# Altium schematic symbol library Custom1.SchLib: 476 symbols (part 6 of 16)
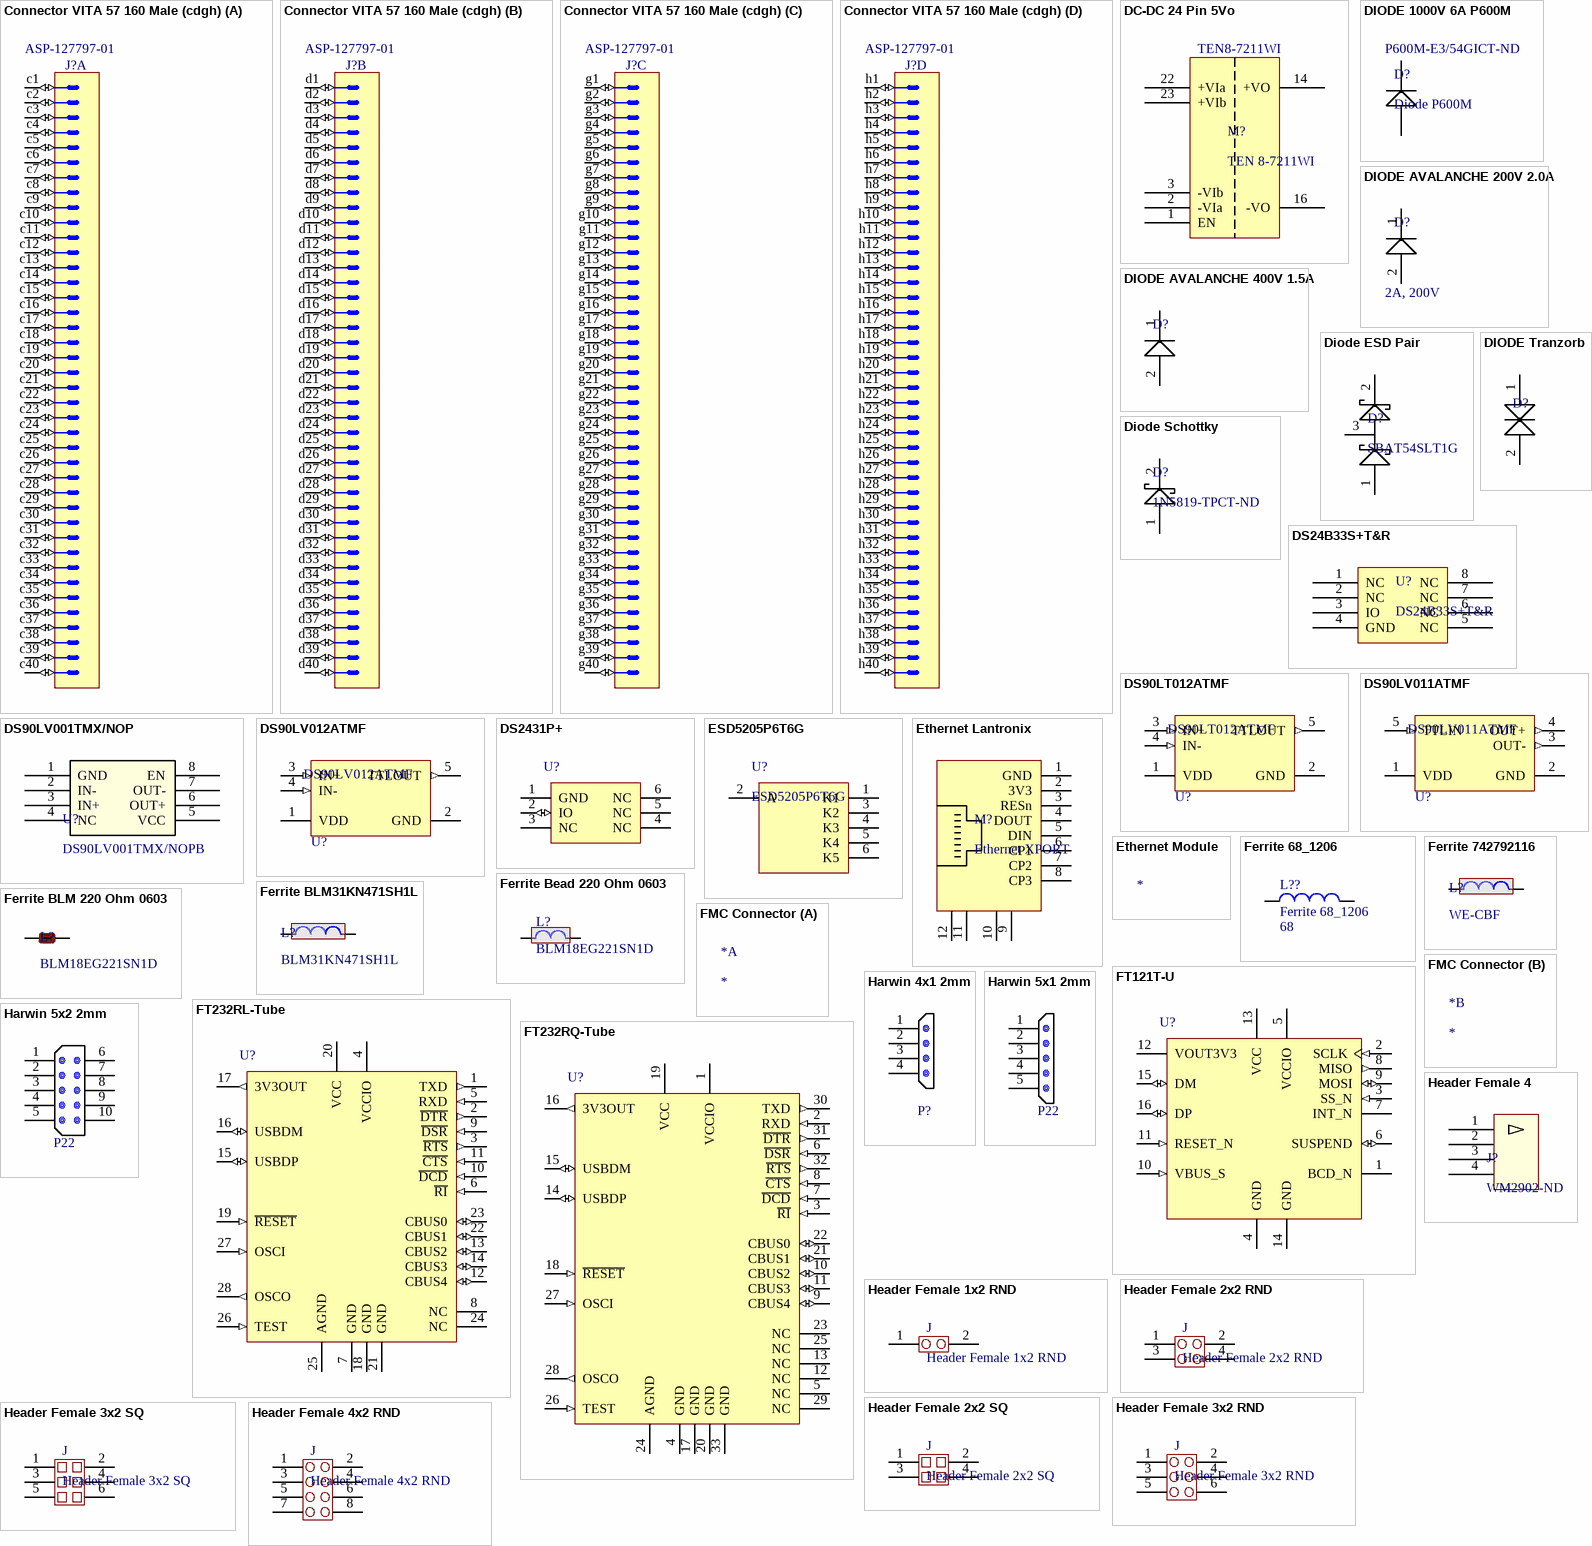
[diagram p30: symbols Connector VITA 57 160 Male (cdgh) to Header Female 4x2 RND]

## DS90LV011ATMF
designator U?
Single High Speed Differential Driver, 5-pin SOT-23; Manufacturer: Texas Instruments; Manufacturer Part Number: DS90LV011ATMF/NOPB; Nominal Supply Current: 7mA; Min Supply Voltage: 3V; Max Supply Voltage: 3.6V; Data Rate: 400Mbps; Max Power Dissipation: 902mW; Number of Receivers: 1; Propagation Delay: 1.5ns; Operating Supply Voltage: 3.3V; Max Supply Current: 10mA; Power Consumption: 17W; Max Output Current: -24mA; Interface: LVDS; Max Output Voltage: 450mV; ComponentLink1URL: http://www.ti.com/lit/ds/symlink/ds90lv011a.pdf; ComponentLink1Description: http://www.ti.com/lit/ds/symlink/ds90lv011a.pdf; Supplier 1: Digi-Key; Stock 1: 57010; Pricing 1: 1 = 1.26000, 10 = 1.12400, 100 = 0.87650, 500 = 0.72410 (USD); RoHS: Yes; Mount: Surface Mount; Case/Package: SOT-23; Number of Pins: 5; Weight: 0.00709oz; Min Operating Temperature: -40°C; Max Operating Temperature: 85°C; Packaging: Tape and Reel; Package Quantity: 1000; Number of Elements: 1; Number of Drivers: 1; Turn-On Delay Time: 1.5ns; Power Dissipation: 902mW; Number of Channels: 1; Operating Supply Current: 10mA; Termination: SMD/SMT; Length: 2.92mm; Height: 1.02mm; Width: 1.6mm; Radiation Hardening: No; REACH SVHC: No SVHC; Lead Free: Lead Free; ComponentLink2URL: https://datasheet.ciiva.com/46381/1581201-46381879.pdf?src-supplier=Element14; ComponentLink2Description: https://datasheet.ciiva.com/46381/1581201-46381879.pdf?src-supplier=Element14; ComponentLink3URL: https://datasheet.ciiva.com/46381/1882279-46381880.pdf?src-supplier=Element14; ComponentLink3Description: https://datasheet.ciiva.com/46381/1882279-46381880.pdf?src-supplier=Element14; Supplier Part Number 1: DS90LV011ATMF/NOPBCT-ND
footprint MF05A_N (SOT23, 5-Leads, Body 2.9x1.6mm, Pitch 0.95mm, Lead Span 2.8mm, IPC Medium Density)
footprint MF05A_L (SOT23, 5-Leads, Body 2.9x1.6mm, Pitch 0.95mm, Lead Span 2.8mm, IPC High Density)
footprint MF05A_M (SOT23, 5-Leads, Body 2.9x1.6mm, Pitch 0.95mm, Lead Span 2.8mm, IPC Low Density)
pins: 1 VDD (power), 2 GND (power), 3 OUT- (out), 4 OUT+ (out), 5 TTLIN (in)

## DS90LV012ATMF
designator U?
3V LVDS Single CMOS Differential Line Receiver, 5-pin SOT-23; Manufacturer: TI National Semiconductor; Manufacturer Part Number: DS90LV012ATMF/NOPB; Number of Elements: 1; Propagation Delay: 3.5ns; Operating Supply Voltage: 3.3V; Max Supply Voltage: 3.6V; Min Supply Voltage: 2.7V; Max Power Dissipation: 2.26W; Data Rate: 400Mbps; Max Supply Current: 9mA; Power Consumption: 18W; ComponentLink1URL: http://www.ti.com/lit/ds/symlink/ds90lv012a.pdf; ComponentLink1Description: http://www.ti.com/lit/ds/symlink/ds90lv012a.pdf; ComponentLink2URL: https://datasheet.ciiva.com/15133/getdatasheetpartid-627853-15133191.pdf?src-supplier=Verical; ComponentLink2Description: https://datasheet.ciiva.com/15133/getdatasheetpartid-627853-15133191.pdf?src-supplier=Verical; ComponentLink3URL: https://datasheet.ciiva.com/41460/001187784-da-01-en-ic-line-ds90lv012atmf-nopb-sot-23-5-tid-41460741.pdf?src-supplier=Conrad; ComponentLink3Description: https://datasheet.ciiva.com/41460/001187784-da-01-en-ic-line-ds90lv012atmf-nopb-sot-23-5-tid-41460741.pdf?src-supplier=Conrad; ComponentLink4URL: https://datasheet.ciiva.com/1709/ds90lt012a-1709907.pdf?src-supplier=Digi-Key; ComponentLink4Description: https://datasheet.ciiva.com/1709/ds90lt012a-1709907.pdf?src-supplier=Digi-Key; ComponentLink5URL: https://datasheet.ciiva.com/3151/ds90lv012a-3151479.pdf?src-supplier=Avnet; ComponentLink5Description: https://datasheet.ciiva.com/3151/ds90lv012a-3151479.pdf?src-supplier=Avnet; ComponentLink6URL: https://datasheet.ciiva.com/1554/1849915-1554728.pdf?src-supplier=Farnell; ComponentLink6Description: https://datasheet.ciiva.com/1554/1849915-1554728.pdf?src-supplier=Farnell; ComponentLink7URL: https://datasheet.ciiva.com/3151/ds90lv012a-3151480.pdf?src-supplier=Avnet; ComponentLink7Description: https://datasheet.ciiva.com/3151/ds90lv012a-3151480.pdf?src-supplier=Avnet; ComponentLink8URL: https://datasheet.ciiva.com/1709/ds90lt012a-1709945.pdf?src-supplier=Digi-Key; ComponentLink8Description: https://datasheet.ciiva.com/1709/ds90lt012a-1709945.pdf?src-supplier=Digi-Key; ComponentLink9URL: https://datasheet.ciiva.com/1709/ds90lt012a-1709946.pdf?src-supplier=Digi-Key; ComponentLink9Description: https://datasheet.ciiva.com/1709/ds90lt012a-1709946.pdf?src-supplier=Digi-Key; Supplier 1: Digi-Key; Stock 1: 46821; Pricing 1: 1=1.05000, 10=0.93600, 100=0.72970, 500=0.60276 (USD); RoHS: Yes; Mount: Surface Mount; Case/Package: SOT-23; Number of Pins: 5; Min Operating Temperature: -40°C; Max Operating Temperature: 85°C; Packaging: Tape and Reel; Number of Receivers: 1; Number of Drivers: 1; Turn-On Delay Time: 3.5ns; Power Dissipation: 2.26W; Number of Channels: 1; Package Quantity: 1000; Length: 2.92mm; Height: 1.02mm; Width: 1.6mm; Radiation Hardening: No; REACH SVHC: No SVHC; Lead Free: Lead Free; Supplier Part Number 1: DS90LV012ATMF/NOPBCT-ND
footprint MF05A_N (SOT23, 5-Leads, Body 2.9x1.6mm, Pitch 0.95mm, Lead Span 2.8mm, IPC Medium Density)
footprint MF05A_L (SOT23, 5-Leads, Body 2.9x1.6mm, Pitch 0.95mm, Lead Span 2.8mm, IPC High Density)
footprint MF05A_M (SOT23, 5-Leads, Body 2.9x1.6mm, Pitch 0.95mm, Lead Span 2.8mm, IPC Low Density)
pins: 1 VDD (power), 2 GND (power), 3 IN+ (in), 4 IN- (in), 5 TTLOUT (out)

## DS2431P+
designator U?
1Kb 1-Wire EEPROM, 6-pin TSOC, -40° to + 85° C, Pb-Free; DatasheetVersion: 1/03/2011; PackageVersion: revE, 2011; PackageReference: D6+1; PackageDescription: Thin Small-Outline, 6 C-Leads, 3.9 x 3.8 mm Body, 1.27 mm Pitch, TSOC, Pb-Free; ComponentLink1Description: Manufacturer URL; ComponentLink1URL: www.maxim-ic.com; ComponentLink2Description: Datasheet; ComponentLink2URL: http://datasheets.maxim-ic.com/en/ds/DS2431.pdf
footprint D6+1 (Small Outline; 6 C-Bend Leads; Body Width 3.8 mm; Pitch 1.27 mm, Maxim Recommended)
pins: 1 GND (power), 2 IO (io), 3 NC, 4 NC, 5 NC, 6 NC

## ESD5205P6T6G
designator U?
Transient Voltage Suppressor, Low Capacitance ESD Protection Diode for High Speed Data Line, 6-Pin SOT-963, Pb-Free, Tape and Reel; Manufacturer: On Semiconductor; VRWM Max (V): 5; Direction: Bidirectional; C Max (pF): 9; PPK Max (W): 18; V(BR) Min (V): 5.5; IR Max (uA): 1; PartNumber: ESD5205P6T6G; Number of Lines: 5; ComponentLink1Description: Manufacturer URL; ComponentLink2Description: Datasheet; DatasheetVersion: Rev. 0; ComponentLink3URL: http://www.onsemi.cn/pub_link/Collateral/527AD.PDF; ComponentLink1URL: http://www.onsemi.com/; Packing: Tape and Reel; ComponentLink2URL: http://www.onsemi.cn/pub_link/Collateral/ESD5205-D.PDF; PackageReference: SOT-963-6-527AD-01; ComponentLink3Description: Package Specification; PackageVersion: Rev. E, 02/2010; RoHS: Pb-Free; Mounting Technology: Surface Mount; PackageDescription: 6-Pin Small Outline Transistor, Body 1 x 0.8 mm, Pitch 0.35 mm
footprint ONSC-SOT-963-6-527AD-01_V
pins: 1 K1, 2 A, 3 K2, 4 K3, 5 K4, 6 K5

## Ethernet Lantronix
designator M?, comment Ethernet XPORT
Lantronix Ethernet XPORT; Manufacturer Part Number: XP1002000-05R; Data Rate: 921.6 kb/s, 10 Mb/s, 100 Mb/s; Processor Type: DSTni-EX; Interface Type: Ethernet, Serial; Number of Ports: 1 Ethernet; Operating Supply Current: 119 mA; Operating Supply Voltage: 3.3 V; Supplier 1: Mouser; Manufacturer: Lantronix; RoHS: RoHS Compliant; Category: Ethernet Modules; Stock 1: 82; Pricing 1: 1=54.30, 25=53.46, 50=52.65, 100=51.10, 200=49.64 (USD); Dimensions: 33.9 mm x 16.25 mm x 13.5 mm; Packaging: Bulk; Product: Serial to Ethernet Device Servers; Series: XPORT; Brand: Lantronix; Maximum Operating Temperature: + 85 C; Minimum Operating Temperature: - 40 C; Standard Pack Qty: 200; RoHS - Mouser: Y; Minimum Order Quantity: 1; Reeling: False; ComponentLink1URL: http://www.mouser.com/ds/2/224/XPort_DS-220314.pdf; ComponentLink1Description: http://www.mouser.com/ds/2/224/XPort_DS-220314.pdf; Supplier Part Number 1: 515-XP1002000-05R
footprint Ethernet XPORT
pins: 1 GND, 2 3V3, 3 RESn, 4 DOUT, 5 DIN, 6 CP1, 7 CP2, 8 CP3, 9, 10, 11, 12

## Ethernet Module
designator *  (value not drawn)

## Ferrite 68_1206
designator L??  value 68
Inductor 68ohm Ferrite_1206; Ratings: 3A; PackageReference: 1206; PackageDescription: Chip Inductor; Supplier: Digi-Key; Supplier P/N: P10437CT-ND
footprint 0402 (Chip Capacitor; Body 1.0 x 0.5 mm (LxW typ))
footprint INDC1608L (Chip Inductor, Body 1.6x0.8mm, IPC High Density)
footprint 2029 (Chip Inductor, Body 2.0x1.2mm, IPC High Density)
footprint 0603 (Chip Inductor, Body 0.6x0.3mm, IPC High Density)
footprint INDC3216 (Chip Inductor, Body 3.2x1.6mm, IPC High Density)
footprint INDC4532 (Chip Inductor, Body 4.5x3.2mm, IPC High Density)
simulation model INDUCTOR (Inductor)
signal-integrity model Inductor
footprint 0805 (SMT; Body 2.0 x 1.2 mm (LxW typ))
footprint 1206 (Chip Capacitor; Body 3.2 x 1.6 mm (LxW typ))
pins: 1, 2

## Ferrite 742792116
designator L?, comment WE-CBF
SMD EMI Suppression Ferrite Bead WE-CBF, Z = 500 Ohm; PartNumber: 742792116; Manufacturer: Wurth Electronics Inc; Impedance: 500 Ohm; Impedance @ Frequency: 500 Ohm @ 100MHz; Current Rating: 2.5A; DC Resistance (DCR): 60 mOhm; Filter Type: Differential Mode - Single; DatasheetVersion: Dec-2005; PackageReference: SMD-1206; PackageDescription: Chip Inductor, 2-Leads, Body 3.2 x 1.6 mm; ComponentLink1Description: Manufacturer URL; ComponentLink1URL: http://www.we-online.com; ComponentLink2Description: Datasheet; ComponentLink2URL: http://www.we-online.de/katalog/media/pdf/742792116.pdf; Supplier 1: Digi-Key; Manufacturer Part Number: 742792116; RoHS: RoHS Compliant; Category: Filters; Stock 1: 7706; Pricing 1: 1=0.28, 10=0.266, 50=0.2444, 100=0.2338, 500=0.22312, 1000=0.2125 (USD); Packaging: Cut Tape (CT); Package / Case: 1206 (3216 Metric); Mounting Type: Surface Mount; Height (Max): 0.051" (1.30mm); Size / Dimension: 0.126" L x 0.063" W (3.20mm x 1.60mm); ComponentLink3URL: http://katalog.we-online.de/pbs/datasheet/742792116.pdf; ComponentLink3Description: http://katalog.we-online.de/pbs/datasheet/742792116.pdf; Supplier Part Number 1: 732-4652-1-ND
footprint SMD-1206 (Chip Inductor, 2-Leads, Body 3.2x1.6x1.3 mm)
footprint IND_1206 (Chip Inductor, Body 3.2x1.6mm, IPC Medium Density)
pins: 1, 2

## Ferrite Bead 220 Ohm 0603
designator L?, comment BLM18EG221SN1D
Ferrite BLM18EG221SN1D Bead 220 Ohm 0603; Manufacturer: Murata Electronics North America; Impedance @ Frequency: 220 Ohm @ 100MHz; Current Rating: 2A; DC Resistance (DCR): 50 mOhm Max; Filter Type: Differential Mode - Single; Supplier 1: Digi-Key; Manufacturer Part Number: BLM18EG221SN1D; RoHS: RoHS Compliant; Category: Filters; Stock 1: 398616; Pricing 1: 1=0.23, 10=0.175, 50=0.1252, 100=0.1126, 250=0.09508, 500=0.08508, 1000=0.07257 (USD); Packaging: Cut Tape (CT); Package / Case: 0603 (1608 Metric); Mounting Type: Surface Mount; Height (Max): 0.037" (0.95mm); Size / Dimension: 0.063" L x 0.031" W (1.60mm x 0.80mm); ComponentLink1URL: http://search.murata.co.jp/Ceramy/image/img/PDF/ENG/L0110S0101BLM18E.pdf; ComponentLink1Description: http://search.murata.co.jp/Ceramy/image/img/PDF/ENG/L0110S0101BLM18E.pdf; Supplier Part Number 1: 490-3992-1-ND
footprint SMD-0603 (Chip Inductor, 2-Leads, Body 1.6x0.8x0.95 mm)
footprint IND_0603 (Chip Inductor, Body 1.6x0.8mm, IPC Medium Density)
pins: 1, 2

## Ferrite BLM31KN471SH1L
designator L?, comment BLM31KN471SH1L
470 Ohms @ 100MHz 1 Power Line Ferrite Bead 1206 (3216 Metric) 4A 20mOhm; Manufacturer: Murata; ComponentLink1Description: Datasheet; ComponentLink1URL: https://www.murata.com/en-us/products/productdata/8801529495582/QNFA9148.pdf; ComponentLink2Description: Supplier Link; ComponentLink2URL: https://www.digikey.com/products/en?keywords=490-16529-1-ND; Supplier 1: Digi-Key; Manufacturer Part Number: BLM31KN471SH1L; Stock 1: 9055; Pricing 1: 1=0.32000, 10=0.25300, 25=0.21400, 50=0.18820, 100=0.16830, 250=0.14652, 500=0.13266, 1000=0.11286 (USD); RoHS: No; Supplier Part Number 1: 490-16529-1-ND
footprint SMD-1206 (Chip Inductor, 2-Leads, Body 3.2x1.6x1.3 mm)
footprint IND_1206 (Chip Inductor, Body 3.2x1.6mm, IPC Medium Density)
pins: 1, 2

## Ferrite BLM 220 Ohm 0603
designator L?, comment BLM18EG221SN1D
Ferrite BLM18EG221SN1D Bead 220 Ohm 0603; Manufacturer: Murata Electronics North America; Impedance @ Frequency: 220 Ohm @ 100MHz; Current Rating: 2A; DC Resistance (DCR): 50 mOhm Max; Filter Type: Differential Mode - Single; Supplier 1: Digi-Key; Manufacturer Part Number: BLM18EG221SN1D; RoHS: RoHS Compliant; Category: Filters; Stock 1: 398616; Pricing 1: 1=0.23, 10=0.175, 50=0.1252, 100=0.1126, 250=0.09508, 500=0.08508, 1000=0.07257 (USD); Packaging: Cut Tape (CT); Package / Case: 0603 (1608 Metric); Mounting Type: Surface Mount; Height (Max): 0.037" (0.95mm); Size / Dimension: 0.063" L x 0.031" W (1.60mm x 0.80mm); ComponentLink1URL: http://search.murata.co.jp/Ceramy/image/img/PDF/ENG/L0110S0101BLM18E.pdf; ComponentLink1Description: http://search.murata.co.jp/Ceramy/image/img/PDF/ENG/L0110S0101BLM18E.pdf; Supplier Part Number 1: 490-3992-1-ND
footprint SMD-0603 (Chip Inductor, 2-Leads, Body 1.6x0.8x0.95 mm)
pins: 1, 2

## FMC Connector
designator *

## FT121T-U
designator U?
FT121 Enhanced USB Device Controller with SPI Slave IC, -40 to +85 degC, 16-Pin TSSOP, Pb-Free, Tube; Manufacturer: FTDI; PartNumber: FT121T-U; DatasheetVersion: ver 1.1, Jul-2013; PackageVersion: Jul-13; PackageReference: TSSOP-16; PackageDescription: 16-Pin Thin Small Outline Package, 5 x 4.4 mm Body, 0.65 mm Pitch; ComponentLink1Description: Manufacturer URL; ComponentLink1URL: http://www.ftdichip.com/; ComponentLink2Description: Datasheet; ComponentLink2URL: http://www.ftdichip.com/Support/Documents/DataSheets/ICs/DS_FT121.pdf
footprint TSSOP-16_N (SOP, 16-Leads, Body 5x4.4mm, Pitch 0.65mm, IPC Medium Density)
footprint TSSOP-16_L (SOP, 16-Leads, Body 5x4.4mm, Pitch 0.65mm, IPC High Density)
footprint TSSOP-16_M (SOP, 16-Leads, Body 5x4.4mm, Pitch 0.65mm, IPC Low Density)
pins: 1 BCD_N (oc) "USB Charger detector output", 2 SCLK (in) "SPI clock input", 3 SS_N (in) "SPI slave select input", 4 GND (power) "Ground", 5 VCCIO (power) "IO Supply Voltage; 1.8V, 2.5V or 3.3V", 6 SUSPEND (io) "Device suspend (output) and wakeup (input)", 7 INT_N (oc) "Interrupt (Active Low)", 8 MISO (out) "4-wire mode: SPI slave output, 3-wire mode: no function. Leave it un-connected", 9 MOSI (io) "4-wire mode: SPI salve input, 3-wire mode: SPI data input/output", 10 VBUS_S (in) "Vbus sensing input", 11 RESET_N (in) "Asynchronous reset (Active Low)", 12 VOUT3V3 (power) "3.3V regulator output for 5V operation; To operate the IC at 3.3 V, supply 3.3 V to both the VCC and VOUT3V3 pins", 13 VCC (power) "Power supply (3.3V or 5V)", 14 GND (power) "Ground", 15 DM (io) "USB data signal minus", 16 DP (io) "USB data signal plus"

## FT232RL-Tube
designator U?
USB UART Asynchronous Serial Data Transfer Chip, 28-pin SSOP, Tube; Manufacturer: FTDI; PartNumber: FT232RL-Tube; DatasheetVersion: ver 2.10, Mar-2012; PackageVersion: Mar-12; PackageReference: SSOP-28; PackageDescription: 28-Pin Small Outline Package 0.65 mm Pitch; ComponentLink1Description: Manufacturer URL; ComponentLink1URL: http://www.ftdichip.com/; ComponentLink2Description: Datasheet; ComponentLink2URL: http://www.ftdichip.com/Support/Documents/DataSheets/ICs/DS_FT232R.pdf
footprint SSOP-28_N (SOP, 28-Leads, Body 10.2x5.3mm, Pitch 0.65mm, IPC Medium Density)
footprint SSOP-28_L (SOP, 28-Leads, Body 10.2x5.3mm, Pitch 0.65mm, IPC High Density)
footprint SSOP-28_M (SOP, 28-Leads, Body 10.2x5.3mm, Pitch 0.65mm, IPC Low Density)
pins: 1 TXD (out), 2 ~{DTR} (out), 3 ~{RTS} (out), 4 VCCIO (power), 5 RXD (in), 6 ~{RI} (in), 7 GND (power), 8 NC, 9 ~{DSR} (in), 10 ~{DCD} (in), 11 ~{CTS} (in), 12 CBUS4 (io), 13 CBUS2 (io), 14 CBUS3 (io), 15 USBDP (io), 16 USBDM (io), 17 3V3OUT (out), 18 GND (power), 19 ~{RESET} (in), 20 VCC (power), 21 GND (power), 22 CBUS1 (io), 23 CBUS0 (io), 24 NC, 25 AGND (power), 26 TEST (in), 27 OSCI (in), 28 OSCO (out)

## FT232RQ-Tube
designator U?
USB UART Asynchronous Serial Data Transfer Chip, 32-pin QFN, Tube; Manufacturer: FTDI; PartNumber: FT232RQ-Tube; DatasheetVersion: ver 2.10, Mar-2012; PackageVersion: Mar-12; PackageReference: PQFN5X5-32; PackageDescription: 32-Pin Quad Flat No-Lead 0.5 mm Pitch, Pullback, 3.2 x 3.2 mm Exposed Pad; ComponentLink1Description: Manufacturer URL; ComponentLink1URL: http://www.ftdichip.com/; ComponentLink2Description: Datasheet; ComponentLink2URL: http://www.ftdichip.com/Support/Documents/DataSheets/ICs/DS_FT232R.pdf
footprint QFN5X5-32_L (QFN, 32-Leads, Body 5x5mm, Pitch 0.5mm, Thermal Pad 3.3x3.3mm, IPC High Density)
footprint QFN5X5-32_M (QFN, 32-Leads, Body 5x5mm, Pitch 0.5mm, Thermal Pad 3.3x3.3mm, IPC Low Density)
footprint QFN5X5-32_N (QFN, 32-Leads, Body 5x5mm, Pitch 0.5mm, Thermal Pad 3.3x3.3mm, IPC Medium Density)
pins: 1 VCCIO (power), 2 RXD (in), 3 ~{RI} (in), 4 GND (power), 5 NC, 6 ~{DSR} (in), 7 ~{DCD} (in), 8 ~{CTS} (in), 9 CBUS4 (io), 10 CBUS2 (io), 11 CBUS3 (io), 12 NC, 13 NC, 14 USBDP (io), 15 USBDM (io), 16 3V3OUT (out), 17 GND (power), 18 ~{RESET} (in), 19 VCC (power), 20 GND (power), 21 CBUS1 (io), 22 CBUS0 (io), 23 NC, 24 AGND (power), 25 NC, 26 TEST (in), 27 OSCI (in), 28 OSCO (out), 29 NC, 30 TXD (out), 31 ~{DTR} (out), 32 ~{RTS} (out), 33 GND (power)

## Harwin 4x1 2mm
designator P?  (value not drawn)
Connector Header Through Hole 4 position 0.079" (2.00mm)  M80-8820442; Current Rating: 3A; Voltage Rating: 120V; Connector Type: Male Pin; Number of Positions: 4; Gender: Male; Contact Resistance: 25mR; ComponentLink1Description: Supplier Link; ComponentLink1URL: https://www.digikey.com/products/en?keywords=M80-8820442; ComponentLink3Description: Datasheet - Specifications; ComponentLink3URL: https://cdn.harwin.com/pdfs/C005XX_M80_and_M83_Datamate_Series_Connectors.pdf; ComponentLink4Description: Datamate Catalog; ComponentLink4URL: https://cdn.harwin.com/pdfs/Harwin_PC_Datamate.pdf; Supplier 1: Digi-Key; Manufacturer: Harwin; Manufacturer Part Number: M80-8820442; Stock 1: 241; Pricing 1: 1=2.73000, 21=2.61619, 105=2.18000, 504=1.85300, 1008=1.58050, 5019=1.41700 (USD); RoHS: Yes; Mount: Through Hole; Case/Package: SIL; Housing Material: Polyamide; Contact Material: Bronze; Color: Black; Contact Plating: Gold; Housing Color: Black; Min Operating Temperature: -55°C; Max Operating Temperature: 125°C; Number of Rows: 1; Fastening Type: Latch; Packaging: Rail/Tube; Contact Gender: Male; Termination: Solder; Number of Contacts: 4; Orientation: Straight; Max Current Rating: 3A; Max Voltage Rating (AC): 120V; Package Quantity: 21; Max Voltage Rating (DC): 120V; Length: 11.6mm; Pitch: 2mm; Depth: 3.8mm; Radiation Hardening: No; REACH SVHC: No SVHC; ComponentLink7URL: https://datasheet.ciiva.com/733/m80-882-733796.pdf?src-supplier=Digi-Key; ComponentLink7Description: Datasheet; Supplier Part Number 1: 952-1071-5-ND
footprint HARWIN M80-8820442 (CONN HEADER VERT 4POS 2MM)
pins: 1, 2, 3, 4

## Harwin 5x1 2mm
designator P22  (value not drawn)
CONN HEADER VERT 5POS 2MM   M80-8820542; Current Rating: 3A; Voltage Rating: 120V; Connector Type: Male Pin; Number of Positions: 5; Gender: Male; Contact Resistance: 25mR; ComponentLink1Description: Supplier Link; ComponentLink1URL: https://www.digikey.com/products/en?keywords=M80-8820542; ComponentLink2Description: Datasheet - Dimensions; ComponentLink2URL: https://cdn.harwin.com/pdfs/M80-882.pdf; ComponentLink3Description: Datasheet - Specifications; ComponentLink3URL: https://cdn.harwin.com/pdfs/C005XX_M80_and_M83_Datamate_Series_Connectors.pdf; ComponentLink4Description: Datamate Catalog; ComponentLink4URL: https://cdn.harwin.com/pdfs/Harwin_PC_Datamate.pdf; Supplier 1: Digi-Key; Manufacturer: Harwin; Manufacturer Part Number: M80-8820542; Stock 1: 537; Pricing 1: 1=2.80000, 18=2.68778, 108=2.24000, 504=1.90401, 1008=1.62400, 5004=1.45600 (USD); RoHS: Yes; Mount: Through Hole; Case/Package: SIL; Housing Material: Thermoplastic; Contact Material: Bronze; Contact Plating: Gold; Color: Black; Housing Color: Black; Min Operating Temperature: -55°C; Max Operating Temperature: 125°C; Number of Rows: 1; Packaging: Rail/Tube; Fastening Type: Latch; Contact Gender: Male; Termination: Solder; Number of Contacts: 5; Orientation: Straight; Max Current Rating: 3A; Max Voltage Rating (AC): 120V; Length: 13.6mm; Pitch: 2mm; Depth: 3.8mm; Radiation Hardening: No; REACH SVHC: No SVHC; ComponentLink5URL: https://datasheet.ciiva.com/11749/0900766b80b6afca-11749442.pdf?src-supplier=RSComponents; ComponentLink5Description: https://datasheet.ciiva.com/11749/0900766b80b6afca-11749442.pdf?src-supplier=RSComponents; ComponentLink6URL: https://datasheet.ciiva.com/733/m80-882-733797.pdf?src-supplier=Digi-Key; ComponentLink6Description: https://datasheet.ciiva.com/733/m80-882-733797.pdf?src-supplier=Digi-Key; ComponentLink7URL: https://datasheet.ciiva.com/41451/001233466-da-01-en-buchsenleiste-gerade-m80-8820542-41451446.pdf?src-supplier=Conrad; ComponentLink7Description: https://datasheet.ciiva.com/41451/001233466-da-01-en-buchsenleiste-gerade-m80-8820542-41451446.pdf?src-supplier=Conrad; Supplier Part Number 1: 952-1072-5-ND
footprint HARWIN M80-8820542 (CONN HEADER VERT 5POS 2MM)
pins: 1, 2, 3, 4, 5

## Harwin 5x2 2mm
designator P22  (value not drawn)
Harwin type M80-8541042; Current Rating: 3A; Voltage Rating: 120V; Number of Poles: 10; Contact Resistance: 25mR; Mating Cycles: 500; Connector Type: Male Pin,Plug; Insulation Resistance: 100mR; Gender: Male; Wire/Cable Gauge: 22AWG; Row Spacing: 0.079inch; Supplier 1: Digi-Key; Manufacturer: Harwin; Manufacturer Part Number: M80-8541042; Stock 1: 802; Pricing 1: 1=2.67, 18=2.42556, 108=2.07898, 504=1.7325, 1008=1.485, 5004=1.3167 (USD); Mount: Through Hole; Contact Plating: Gold,Lead,Tin; Contact Material: Brass,Bronze,Copper; Colour: Black; Material: Glass,Thermoplastic; Housing Colour: Black; Housing Material: Thermoplastic; Min Operating Temperature: -55°C; Max Operating Temperature: 125°C; Number of Rows: 2; Contact Gender: Male; Packaging: Rail/Tube; Max Current Rating: 3A; Number of Positions: 10; Termination: Solder; Max Voltage Rating (AC): 120V; Number of Contacts: 10; Working Voltage: 120V; Orientation: Straight; Length: 13.6mm; Lead Pitch: 2mm; Pitch: 2mm; Depth: 5.8mm; Radiation Hardening: No; REACH SVHC: No SVHC; Flammability Rating: UL94 V-0; Supplier Part Number 1: 952-1086-5-ND; ComponentLink1Description: Supplier Link; ComponentLink1URL: https://www.digikey.com/products/en?keywords=M80-8541042; ComponentLink2Description: Datasheet - Dimensions; ComponentLink2URL: https://cdn.harwin.com/pdfs/M80-854.pdf; ComponentLink3Description: Datasheet - Specifications; ComponentLink3URL: https://cdn.harwin.com/pdfs/C005XX_M80_and_M83_Datamate_Series_Connectors.pdf; ComponentLink4Description: Datamate Catalog; ComponentLink4URL: https://cdn.harwin.com/pdfs/Harwin_PC_Datamate.pdf
footprint Harwin M80-8541042
pins: 1, 2, 3, 4, 5, 6, 7, 8, 9, 10

## Header Female 1x2 RND
designator J
pins: 1, 2

## Header Female 2x2 RND
designator J
pins: 1, 2, 3, 4

## Header Female 2x2 SQ
designator J
pins: 1, 2, 3, 4

## Header Female 3x2 RND
designator J
pins: 1, 2, 3, 4, 5, 6

## Header Female 3x2 SQ
designator J
pins: 1, 2, 3, 4, 5, 6

## Header Female 4
designator J?, comment WM2902-ND
CONN HOUSING 4POS .100 W/LATCH; Manufacturer: Molex; Manufacturer Part Number: 0050579404; Connector Type: Receptacle,Socket; Number of Positions: 4; Gender: Female; Pitch: 2.54mm; Supplier 1: Digi-Key; Stock 1: 78864; Pricing 1: 1=0.27, 10=0.255, 25=0.2172, 50=0.1902, 100=0.1765, 250=0.1562, 500=0.1494, 1000=0.1222, 2500=0.112 (USD); Mount: Panel; Case/Package: 100; Colour: Black; Housing Colour: Black; Housing Material: Polyester; Min Operating Temperature: -40°C; Max Operating Temperature: 105°C; Packaging: Bulk; Termination: Crimp; Orientation: Straight; Number of Rows: 1; Fastening Type: Latch; Number of Contacts: 4; Length: 10.13mm; Depth: 15.24mm; ComponentLink1URL: https://datasheet.ciiva.com/6784/050579410-sd-6784311.pdf; ComponentLink1Description: https://datasheet.ciiva.com/6784/050579410-sd-6784311.pdf; ComponentLink2URL: https://datasheet.ciiva.com/3109/0050579404-crimp-housings-3109251.pdf; ComponentLink2Description: https://datasheet.ciiva.com/3109/0050579404-crimp-housings-3109251.pdf; ComponentLink3URL: https://datasheet.ciiva.com/16468/0050579404-crimp-housings-16468725.pdf; ComponentLink3Description: https://datasheet.ciiva.com/16468/0050579404-crimp-housings-16468725.pdf; ComponentLink4URL: https://datasheet.ciiva.com/15179/getdatasheetpartid-163383-15179021.pdf; ComponentLink4Description: https://datasheet.ciiva.com/15179/getdatasheetpartid-163383-15179021.pdf; Supplier Part Number 1: WM2902-ND
pins: 1, 2, 3, 4

## Header Female 4x2 RND
designator J
pins: 1, 2, 3, 4, 5, 6, 7, 8

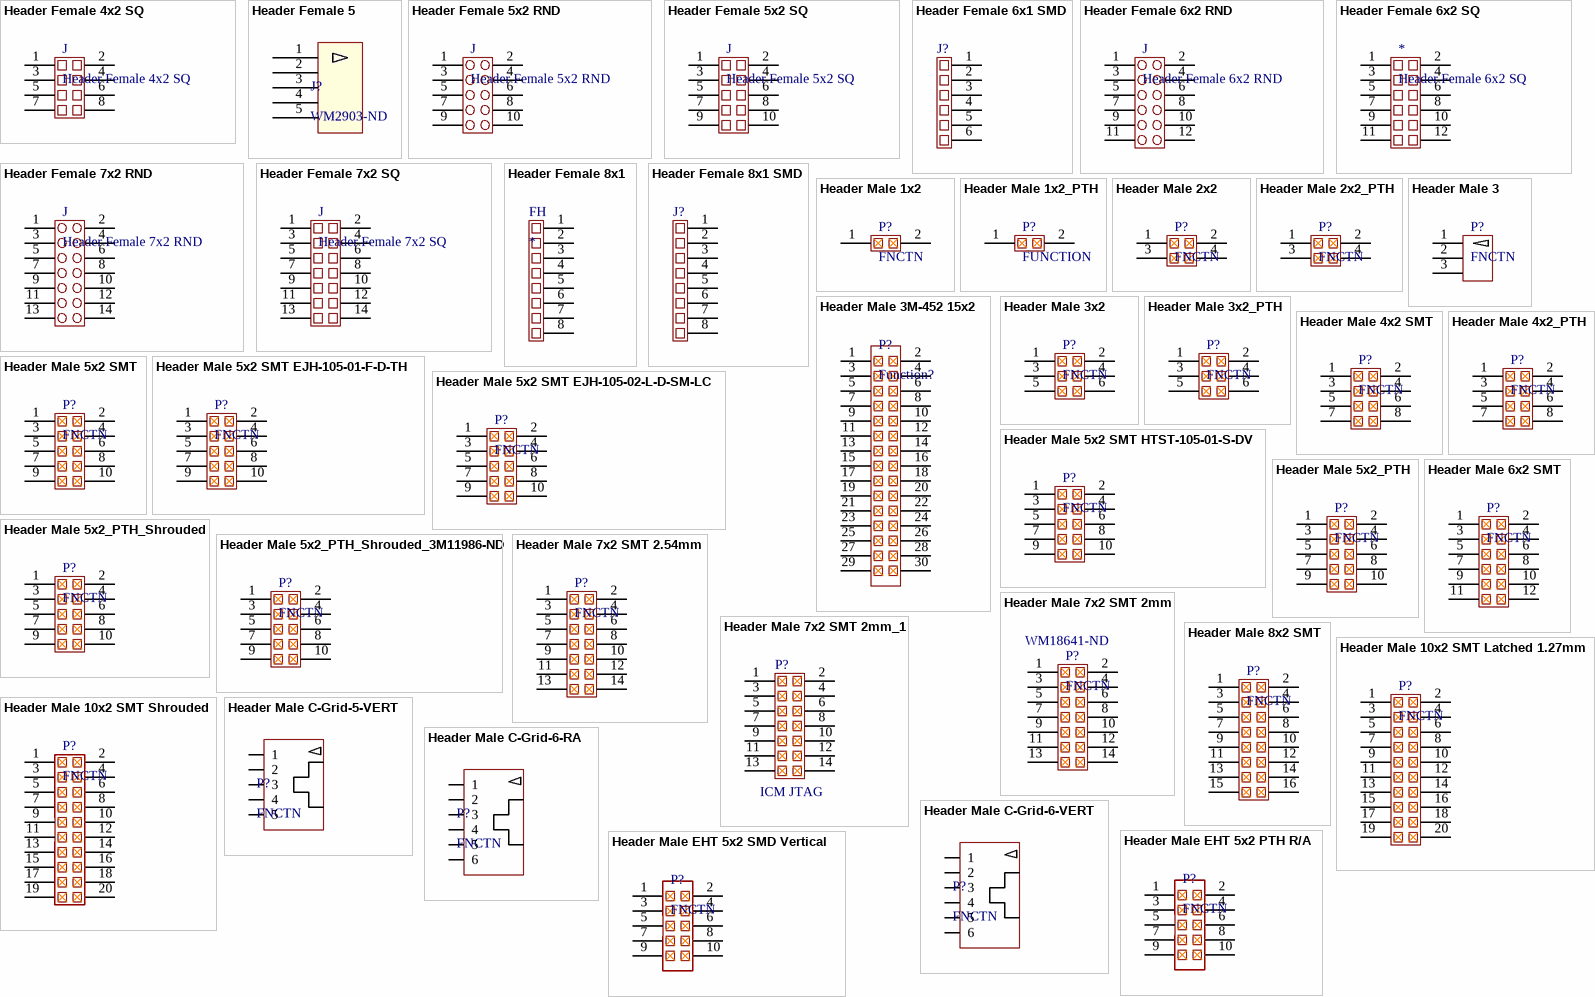
[diagram p14: symbols Header Female 4x2 SQ to Header Male EHT 5x2 SMD Vertical]

## Header Female 4x2 SQ
designator J
pins: 1, 2, 3, 4, 5, 6, 7, 8

## Header Female 5
designator J?, comment WM2903-ND
CONN HOUSING 5POS .100 W/LATCH; Manufacturer: Molex; Manufacturer Part Number: 0050579405; Connector Type: Receptacle,Socket; Number of Positions: 5; Gender: Female; Pitch: 2.54mm; Supplier 1: Digi-Key; Stock 1: 31761; Pricing 1: 1=0.34, 10=0.325, 25=0.2784, 50=0.2366, 100=0.2274, 250=0.2042, 500=0.1949, 1000=0.1624, 2500=0.1485 (USD); Mount: Panel; Case/Package: 100; Colour: Black; Housing Colour: Black; Housing Material: Polyester; Min Operating Temperature: -40°C; Max Operating Temperature: 105°C; Packaging: Bulk; Termination: Crimp; Orientation: Straight; Number of Rows: 1; Number of Contacts: 5; Fastening Type: Latch; Length: 12.67mm; Depth: 15.24mm; ComponentLink1URL: https://datasheet.ciiva.com/6784/050579410-sd-6784311.pdf; ComponentLink1Description: https://datasheet.ciiva.com/6784/050579410-sd-6784311.pdf; ComponentLink2URL: https://datasheet.ciiva.com/16468/0050579405-crimp-housings-16468727.pdf; ComponentLink2Description: https://datasheet.ciiva.com/16468/0050579405-crimp-housings-16468727.pdf; Supplier Part Number 1: WM2903-ND
pins: 1, 2, 3, 4, 5

## Header Female 5x2 RND
designator J
pins: 1, 2, 3, 4, 5, 6, 7, 8, 9, 10

## Header Female 5x2 SQ
designator J
pins: 1, 2, 3, 4, 5, 6, 7, 8, 9, 10

## Header Female 6x1 SMD
designator J?, comment Header 6x1 SMD  (value not drawn)
CONN SOCKET SGL 6POS GOLD SMD; Manufacturer: 3M; Manufacturer Part Number: 963106-2000-AR-PR; Connector Type: Receptacle, Pass Through; Number of Positions: 6; Number of Positions Loaded: All; Pitch: 0.100" (2.54mm); Supplier 1: Digi-Key; RoHS: RoHS Compliant; Category: Connectors, Interconnects; Stock 1: 971; Pricing 1: 1=2.05, 10=1.86, 25=1.7456, 50=1.6698, 100=1.5939, 250=1.44212 (USD); Packaging: Cut Tape (CT); Contact Type: Female Socket; Number of Rows: 1; Row Spacing: -; Mounting Type: Surface Mount; Termination: Solder; Fastening Type: -; Features: -; Contact Finish: Gold; Contact Finish Thickness: Flash; Color: Black; ComponentLink1URL: http://multimedia.3m.com/mws/mediawebserver?66666UuZjcFSLXTtNxTElxfcEVuQEcuZgVs6EVs6E666666--; ComponentLink1Description: http://multimedia.3m.com/mws/mediawebserver?66666UuZjcFSLXTtNxTElxfcEVuQEcuZgVs6EVs6E666666--; Supplier Part Number 1: 3M9560CT-ND
footprint Header 6x1 SMD
pins: 1, 2, 3, 4, 5, 6

## Header Female 6x2 RND
designator J
pins: 1, 2, 3, 4, 5, 6, 7, 8, 9, 10, 11, 12

## Header Female 6x2 SQ
designator *
pins: 1, 2, 3, 4, 5, 6, 7, 8, 9, 10, 11, 12

## Header Female 7x2 RND
designator J
pins: 1, 2, 3, 4, 5, 6, 7, 8, 9, 10, 11, 12, 13, 14

## Header Female 7x2 SQ
designator J
pins: 1, 2, 3, 4, 5, 6, 7, 8, 9, 10, 11, 12, 13, 14

## Header Female 8x1
designator FH
Header 8 Female SMT; Manufacturer: 3M; Manufacturer Part Number: 963108-2000-AR-PR; Connector Type: Receptacle, Pass Through; Number of Positions: 8; Number of Positions Loaded: All; Pitch: 0.100" (2.54mm); Supplier 1: Digi-Key; Supplier Part Number 1: 3M9561CT-ND; RoHS: RoHS Compliant; Category: Connectors, Interconnects; Stock: 3513; Pricing: 1=2.2, 10=1.994, 25=1.8724, 50=1.7908, 100=1.7094, 250=1.5466 (USD); Packaging: Cut Tape (CT); Contact Type: Female Socket; Number of Rows: 1; Row Spacing: -; Mounting Type: Surface Mount; Termination: Solder; Fastening Type: -; Features: -; Contact Finish: Gold; Contact Finish Thickness: Flash; Color: Black; ComponentLink1URL: http://multimedia.3m.com/mws/mediawebserver?66666UuZjcFSLXTtNxTElxfcEVuQEcuZgVs6EVs6E666666--; ComponentLink1Description: http://multimedia.3m.com/mws/mediawebserver?66666UuZjcFSLXTtNxTElxfcEVuQEcuZgVs6EVs6E666666--
pins: 1, 2, 3, 4, 5, 6, 7, 8

## Header Female 8x1 SMD
designator J?, comment Header 8x1 SMD  (value not drawn)
CONN SOCKET SGL 8POS GOLD SMD; Manufacturer: 3M; Manufacturer Part Number: 963108-2000-AR-PR; Connector Type: Receptacle, Pass Through; Number of Positions: 8; Number of Positions Loaded: All; Pitch: 0.100" (2.54mm); Supplier 1: Digi-Key; RoHS: RoHS Compliant; Category: Connectors, Interconnects; Stock 1: 0; Pricing 1: 1=2.32, 10=2.102, 25=1.9736, 50=1.8876, 100=1.8018, 250=1.6302 (USD); Packaging: Cut Tape (CT); Contact Type: Female Socket; Number of Rows: 1; Row Spacing: -; Mounting Type: Surface Mount; Termination: Solder; Fastening Type: -; Features: -; Contact Finish: Gold; Contact Finish Thickness: Flash; Color: Black; ComponentLink1URL: http://multimedia.3m.com/mws/mediawebserver?66666UuZjcFSLXTtNxTElxfcEVuQEcuZgVs6EVs6E666666--; ComponentLink1Description: http://multimedia.3m.com/mws/mediawebserver?66666UuZjcFSLXTtNxTElxfcEVuQEcuZgVs6EVs6E666666--; Supplier Part Number 1: 3M9561CT-ND
footprint Header 8x1 SMD (Header 6x1 SMD)
pins: 1, 2, 3, 4, 5, 6, 7, 8

## Header Male 1x2
designator P?, comment FNCTN
Header Male 1x2
pins: 1, 2

## Header Male 1x2_PTH
designator P?, comment FUNCTION
Header, 2 Contacts, 2.54 mm, SAMTEC  HTSW-102-07-G-S; Manufacturer: Molex Inc; Manufacturer Part Number: 0026481241; Connector Type: Header, Unshrouded, Breakaway; Number of Positions: 24; Number of Positions Loaded: All; Pitch: 0.156" (3.96mm); Max Current Rating: 7.6A; Number of Contacts: 2; Max Voltage Rating (AC): 550V; Gender: Male; Load: No; Supplier 1: Digi-Key; RoHS: RoHS Compliant; Category: Connectors, Interconnects; Stock 1: 2794; Pricing 1: 1=1.75, 10=1.568, 100=1.2913, 500=1.02074, 1000=0.87623, 5000=0.79937, 10000=0.76863 (USD); Packaging: Bulk; Contact Type: Male Pin; Number of Rows: 1; Row Spacing: -; Contact Mating Length: 0.450" (11.43mm); Mounting Type: Through Hole; Termination: Solder; Fastening Type: -; Features: -; Contact Finish: Tin; Contact Finish Thickness: 60µin (1.52µm); Color: Black; ComponentLink1URL: http://www.molex.com/pdm_docs/sd/026481241_sd.pdf; ComponentLink1Description: http://www.molex.com/pdm_docs/sd/026481241_sd.pdf; Supplier Part Number 1: WM50007-24-ND  (BREAKAWAY); Supplier 2: Digi-Key; Stock 2: 13837; Pricing 2: 1=0.29, 10=0.273, 100=0.1911, 500=0.1638, 1000=0.1365, 5000=0.117, 10000=0.1092 (USD); Mount: Through Hole; Colour: Natural; Contact Plating: Nickel,Gold; Contact Material: Bronze; Housing Colour: Natural; Housing Material: Polymer; Min Operating Temperature: -55°C; Max Operating Temperature: 125°C; Package Quantity: 1; Orientation: Straight; Length: 5.08mm; Depth: 2.48mm; Radiation Hardening: No; REACH SVHC: No SVHC; ComponentLink2URL: https://datasheet.ciiva.com/737/htsw-xxx-xx-xxx-x-xx-xx-xx-mkt-737890.pdf; ComponentLink2Description: https://datasheet.ciiva.com/737/htsw-xxx-xx-xxx-x-xx-xx-xx-mkt-737890.pdf; ComponentLink3URL: https://datasheet.ciiva.com/10279/htsw-th-10279799.pdf; ComponentLink3Description: https://datasheet.ciiva.com/10279/htsw-th-10279799.pdf; ComponentLink4URL: https://datasheet.ciiva.com/29130/tsw-th-29130729.pdf; ComponentLink4Description: https://datasheet.ciiva.com/29130/tsw-th-29130729.pdf; ComponentLink5URL: https://datasheet.ciiva.com/16734/htsw-th-16734174.pdf; ComponentLink5Description: https://datasheet.ciiva.com/16734/htsw-th-16734174.pdf; Supplier Part Number 2: SAM8736-ND
footprint Header Male 1x2 PTH
pins: 1, 2

## Header Male 2x2
designator P?, comment FNCTN
Header, Unshrouded 2x2 SMT; Manufacturer: FCI; Manufacturer Part Number: 95278-101A04LF; Number of Positions: 4; Number of Positions Loaded: All; Pitch: 0.100" (2.54mm); Supplier 1: Digi-Key; Supplier Part Number 1: 609-4463-1-ND; RoHS: RoHS Compliant; Category: Connectors, Interconnects; Stock: 4958; Pricing: 1=0.99, 10=0.867, 25=0.8164, 50=0.7822, 100=0.7483 (USD); Packaging: Cut Tape (CT); Contact Type: Male Pin; Connector Type: Header, Unshrouded; Number of Rows: 2; Row Spacing: 0.100" (2.54mm); Contact Mating Length: 0.232" (5.90mm); Mounting Type: Surface Mount; Termination: Solder; Fastening Type: -; Features: -; Contact Finish: Gold, GXT™; Contact Finish Thickness: 30µin (0.76µm); Color: Black; ComponentLink1URL: http://portal.fciconnect.com/Comergent//fci/drawing/95278.pdf; ComponentLink1Description: http://portal.fciconnect.com/Comergent//fci/drawing/95278.pdf
footprint Header Male 2x2 SMT
pins: 1, 2, 3, 4

## Header Male 2x2_PTH
designator P?, comment FNCTN
Header Male 2x2_PTH; Manufacturer: FCI; Manufacturer Part Number: 67997-104HLF; Connector Type: Header, Unshrouded; Number of Positions: 4; Number of Positions Loaded: All; Pitch: 0.100" (2.54mm); Supplier 1: Digi-Key; Supplier Part Number 1: 609-3225-ND; RoHS: RoHS Compliant; Category: Connectors, Interconnects; Stock: 2526; Pricing: 1=0.28, 10=0.264, 25=0.2264, 50=0.1926, 100=0.185, 250=0.16612, 500=0.15856, 1000=0.13213, 2500=0.1208 (USD); Packaging: Bulk; Contact Type: Male Pin; Number of Rows: 2; Row Spacing: 0.100" (2.54mm); Contact Mating Length: 0.230" (5.84mm); Mounting Type: Through Hole; Termination: Solder; Fastening Type: -; Features: -; Contact Finish: Gold or Gold, GXT™; Contact Finish Thickness: 30µin (0.76µm); Color: Black; ComponentLink1URL: http://portal.fciconnect.com/Comergent//fci/drawing/67996.pdf; ComponentLink1Description: http://portal.fciconnect.com/Comergent//fci/drawing/67996.pdf
footprint Header Male 2x2 PTH
pins: 1, 2, 3, 4

## Header Male 3
designator P?, comment FNCTN
Header Male 3; Manufacturer: Molex Inc; Manufacturer Part Number: 0705530002; Connector Type: Header, Shrouded; Number of Positions: 3; Number of Positions Loaded: All; Pitch: 0.100" (2.54mm); Supplier 1: Digi-Key; Supplier Part Number 1: WM4901-ND; RoHS: RoHS Compliant; Category: Connectors, Interconnects; Stock: 3883; Pricing: 1=1.06, 10=0.935, 50=0.8436, 100=0.807, 250=0.7336, 500=0.66024, 1000=0.58688, 2500=0.53186, 5000=0.51352 (USD); Packaging: Tube; Contact Type: Male Pin; Number of Rows: 1; Row Spacing: -; Contact Mating Length: 0.240" (6.10mm); Mounting Type: Through Hole, Right Angle; Termination: Solder; Fastening Type: Latch Holder; Features: -; Contact Finish: Gold; Contact Finish Thickness: 15µin (0.38µm); Color: Black; ComponentLink1URL: http://www.molex.com/pdm_docs/sd/705530002_sd.pdf; ComponentLink1Description: http://www.molex.com/pdm_docs/sd/705530002_sd.pdf; Supplier 2: Digi-Key; Stock 2: 14036; Pricing 2: 1=0.96, 10=0.843, 50=0.7606, 100=0.7275, 250=0.6614, 500=0.59526, 1000=0.52912, 2500=0.47952, 5000=0.46298 (USD); ComponentLink2URL: http://www.molex.com/pdm_docs/sd/705430001_sd.pdf; ComponentLink2Description: http://www.molex.com/pdm_docs/sd/705430001_sd.pdf; Supplier Part Number 2: WM4801-ND
footprint Header Male 3 RA
footprint Header Male 3 Vert
pins: 1, 2, 3

## Header Male 3M-452 15x2
designator P?, comment Function?
CONN HEADER SMD 30POS 1.27MM; Manufacturer: 3M; Manufacturer Part Number: 45230-220230; Current Rating: 1A; Voltage Rating: 125V; Number of Positions: 30; Connector Type: Male Pin; Row Spacing: 0.05inch; ComponentLink1Description: Supplier Link; ComponentLink1URL: https://www.digikey.com/products/en?keywords=3M15579CT-ND; ComponentLink2Description: Datasheet; ComponentLink2URL: https://media.digikey.com/pdf/Data%20Sheets/3M%20PDFs/451,452_Series_Header&Socket.pdf; Supplier 1: Digi-Key; Stock 1: 334; Pricing 1: 1 = 10.50000, 10 = 10.04800, 100 = 8.44930 (USD); RoHS: Yes; Mount: Surface Mount; Contact Plating: Gold; Contact Material: Copper Alloy,Bronze; Housing Material: Liquid Crystal Polymer; Min Operating Temperature: -55°C; Max Operating Temperature: 105°C; Number of Rows: 2; Contact Gender: Male; Package Quantity: 500; Fastening Type: Latch; Packaging: Cut Tape; Termination: Solder; Number of Contacts: 30; Pitch: 1.27mm; Flammability Rating: UL94 V-0; Supplier Part Number 1: 3M15579CT-ND
footprint 45230-220230 (Shrouded header, 5x2, 452 series, through hole)
pins: 1, 2, 3, 4, 5, 6, 7, 8, 9, 10, 11, 12, 13, 14, 15, 16, 17, 18, 19, 20, 21, 22, 23, 24, 25, 26, 27, 28, 29, 30

## Header Male 3x2
designator P?, comment FNCTN
Header Male 3x2; Manufacturer: FCI; Manufacturer Part Number: 95278-101A06LF; Connector Type: Header, Unshrouded; Number of Positions: 6; Number of Positions Loaded: All; Pitch: 0.100" (2.54mm); Supplier 1: Digi-Key; Supplier Part Number 1: 609-3487-1-ND; RoHS: RoHS Compliant; Category: Connectors, Interconnects; Stock: 3208; Pricing: 1=1.1, 10=0.963, 25=0.9064, 50=0.8688, 100=0.831 (USD); Packaging: Cut Tape (CT); Contact Type: Male Pin; Number of Rows: 2; Row Spacing: 0.100" (2.54mm); Contact Mating Length: 0.232" (5.90mm); Mounting Type: Surface Mount; Termination: Solder; Fastening Type: -; Features: -; Contact Finish: Gold, GXT™; Contact Finish Thickness: 30µin (0.76µm); Color: Black; ComponentLink1URL: http://portal.fciconnect.com/Comergent//fci/drawing/95278.pdf; ComponentLink1Description: http://portal.fciconnect.com/Comergent//fci/drawing/95278.pdf
footprint Header Male 2x3 SMT
pins: 1, 2, 3, 4, 5, 6

## Header Male 3x2_PTH
designator P?, comment FNCTN
Header Male 3x2_PTH; Manufacturer: FCI; Manufacturer Part Number: 67997-106HLF; Connector Type: Header, Unshrouded; Number of Positions: 6; Number of Positions Loaded: All; Pitch: 0.100" (2.54mm); Supplier 1: Digi-Key; Supplier Part Number 1: 609-3393-ND; RoHS: RoHS Compliant; Category: Connectors, Interconnects; Stock: 877; Pricing: 1=1.64, 10=1.489, 25=1.3976, 50=1.3368, 100=1.276, 250=1.15444, 500=1.0633, 1000=0.9114, 2500=0.85064 (USD); Packaging: Bulk; Contact Type: Male Pin; Number of Rows: 2; Row Spacing: 0.100" (2.54mm); Contact Mating Length: 0.230" (5.84mm); Mounting Type: Through Hole; Termination: Solder; Fastening Type: -; Features: -; Contact Finish: Gold or Gold, GXT™; Contact Finish Thickness: 30µin (0.76µm); Color: Black; ComponentLink1URL: http://portal.fciconnect.com/Comergent//fci/drawing/67996.pdf; ComponentLink1Description: http://portal.fciconnect.com/Comergent//fci/drawing/67996.pdf
footprint Header Male 2x3 PTH
pins: 1, 2, 3, 4, 5, 6

## Header Male 4x2 SMT
designator P?, comment FNCTN
Header Male 4x2 SMT; Manufacturer: Molex Inc; Manufacturer Part Number: 0015910080; Connector Type: Header, Unshrouded, Breakaway; Number of Positions: 8; Number of Positions Loaded: All; Pitch: 0.100" (2.54mm); Supplier 1: Digi-Key; Supplier Part Number 1: WM17458-ND; RoHS: RoHS Compliant; Category: Connectors, Interconnects; Stock: 4605; Pricing: 1=0.74, 10=0.652, 50=0.5882, 100=0.5625, 250=0.5114, 500=0.46026, 1000=0.40912, 2500=0.37076, 5000=0.35798 (USD); Packaging: Tube; Contact Type: Male Pin; Number of Rows: 2; Row Spacing: 0.100" (2.54mm); Contact Mating Length: 0.240" (6.10mm); Mounting Type: Surface Mount; Termination: Solder; Fastening Type: -; Features: -; Contact Finish: Gold; Contact Finish Thickness: 15µin (0.38µm); Color: Black; ComponentLink1URL: http://www.molex.com/pdm_docs/sd/015910080_sd.pdf; ComponentLink1Description: http://www.molex.com/pdm_docs/sd/015910080_sd.pdf
footprint Header Male 2x4 SMT
pins: 1, 2, 3, 4, 5, 6, 7, 8

## Header Male 4x2_PTH
designator P?, comment FNCTN
Header Male 4x2_PTH; Manufacturer: FCI; Manufacturer Part Number: 67997-108HLF; Connector Type: Header, Unshrouded; Number of Positions: 8; Number of Positions Loaded: All; Pitch: 0.100" (2.54mm); Supplier 1: Digi-Key; Supplier Part Number 1: 609-3226-ND; RoHS: RoHS Compliant; Category: Connectors, Interconnects; Stock: 1401; Pricing: 1=0.44, 10=0.416, 25=0.3744, 50=0.3328, 100=0.319, 250=0.29128, 500=0.2774, 1000=0.22886, 2500=0.20805 (USD); Packaging: Bulk; Contact Type: Male Pin; Number of Rows: 2; Row Spacing: 0.100" (2.54mm); Contact Mating Length: 0.230" (5.84mm); Mounting Type: Through Hole; Termination: Solder; Fastening Type: -; Features: -; Contact Finish: Gold or Gold, GXT™; Contact Finish Thickness: 30µin (0.76µm); Color: Black; ComponentLink1URL: http://portal.fciconnect.com/Comergent//fci/drawing/67996.pdf; ComponentLink1Description: http://portal.fciconnect.com/Comergent//fci/drawing/67996.pdf
footprint Header Male 2x4 PTH
pins: 1, 2, 3, 4, 5, 6, 7, 8

## Header Male 5x2 SMT
designator P?, comment FNCTN
Header Male 5x2 SMT; Manufacturer: FCI; Manufacturer Part Number: 95278-101A10LF; Connector Type: Header, Unshrouded; Number of Positions: 10; Number of Positions Loaded: All; Pitch: 0.100" (2.54mm); Supplier 1: Digi-Key; Supplier Part Number 1: 609-3483-1-ND; RoHS: RoHS Compliant; Category: Connectors, Interconnects; Stock: 5019; Pricing: 1=1.27, 10=1.116, 25=1.05, 50=1.0062, 100=0.9624 (USD); Packaging: Cut Tape (CT); Contact Type: Male Pin; Number of Rows: 2; Row Spacing: 0.100" (2.54mm); Contact Mating Length: 0.232" (5.90mm); Mounting Type: Surface Mount; Termination: Solder; Fastening Type: -; Features: -; Contact Finish: Gold, GXT™; Contact Finish Thickness: 30µin (0.76µm); Color: Black; ComponentLink1URL: http://portal.fciconnect.com/Comergent//fci/drawing/95278.pdf; ComponentLink1Description: http://portal.fciconnect.com/Comergent//fci/drawing/95278.pdf
footprint Header Male 2x5 SMT
footprint 95278-101A10LF
pins: 1, 2, 3, 4, 5, 6, 7, 8, 9, 10

## Header Male 5x2 SMT EJH-105-01-F-D-TH
designator P?, comment FNCTN
CONN HEADER VERT 10POS 2.54MM; Manufacturer: Samtec; Manufacturer Part Number: EJH-105-02-L-D-SM-LC; ComponentLink1Description: Supplier Link; ComponentLink1URL: https://www.digikey.com/product-detail/en/samtec-inc/EJH-105-01-F-D-TH/SAM10446-ND/2640924; Supplier 1: Digikey; Stock 1: 17; Pricing 1: 1 = 6.03000, 10 = 5.78400, 100 = 4.82000, 500 = 4.09700, 1000 = 3.49450 (USD); Supplier Part Number 1: SAM11058-ND; ComponentLink2Description: Drawing; ComponentLink2URL: http://suddendocs.samtec.com/prints/ejh-1xx-xx-xx-d-xx-xx-xx-mkt.pdf; ComponentLink3Description: Datasheet; ComponentLink3URL: http://suddendocs.samtec.com/catalog_english/ejh.pdf
pins: 1, 2, 3, 4, 5, 6, 7, 8, 9, 10

## Header Male 5x2 SMT EJH-105-02-L-D-SM-LC
designator P?, comment FNCTN
Connector Header Surface Mount 10 position 0.100" (2.54mm); Manufacturer: Samtec; Manufacturer Part Number: EJH-105-02-L-D-SM-LC; ComponentLink1Description: Supplier Link; ComponentLink1URL: https://www.digikey.com/product-detail/en/samtec-inc/EJH-105-02-L-D-SM-LC/SAM11058-ND/6694240; Supplier 1: Digikey; Stock 1: 17; Pricing 1: 1 = 6.03000, 10 = 5.78400, 100 = 4.82000, 500 = 4.09700, 1000 = 3.49450 (USD); ComponentLink2URL: http://datasheet.octopart.com/EJH-105-02-L-D-SM-LC-Samtec-datasheet-96974970.pdf?src-supplier=Master+Electronics; ComponentLink2Description: http://datasheet.octopart.com/EJH-105-02-L-D-SM-LC-Samtec-datasheet-96974970.pdf?src-supplier=Master+Electronics; ComponentLink3URL: http://sigma.octopart.com/96974971/technical_drawing/Samtec-EJH-105-02-L-D-SM-LC.pdf?src-supplier=Samtec; ComponentLink3Description: http://sigma.octopart.com/96974971/technical_drawing/Samtec-EJH-105-02-L-D-SM-LC.pdf?src-supplier=Samtec; Supplier Part Number 1: SAM11058-ND
footprint Header Male 2x5 SMT - EJH
pins: 1, 2, 3, 4, 5, 6, 7, 8, 9, 10

## Header Male 5x2 SMT HTST-105-01-S-DV
designator P?, comment FNCTN
Connector Header Surface Mount 10 position 0.100" (2.54mm); Manufacturer: Samtec; Manufacturer Part Number: HTST-105-01-S-DV; Max Current Rating: 3A; Number of Positions: 10; Gender: Male; Connector Type: Male Pin; Row Spacing: 0.1inch; ComponentLink1Description: Datasheet; ComponentLink1URL: http://suddendocs.samtec.com/prints/htst-1xx-01-xx-dv-xx-xx-mkt.pdf; ComponentLink2Description: Supplier Link; ComponentLink2URL: https://www.digikey.com/product-detail/en/samtec-inc/HTST-105-01-S-DV/SAM10526-ND/2664182; Supplier 1: Digi-Key; Stock 1: 1077; Pricing 1: 1 = 3.58000, 28 = 3.14607, 112 = 2.86000, 504 = 2.43099, 1008 = 2.07350, 5012 = 1.85900 (USD); RoHS: Yes; Mount: Surface Mount; Contact Plating: Gold; Contact Material: Bronze; Color: Natural; Housing Material: Polychlorinated; Housing Color: Natural; Min Operating Temperature: -55°C; Max Operating Temperature: 125°C; Packaging: Rail/Tube; Number of Rows: 2; Termination: Solder; Number of Contacts: 10; Orientation: Straight; Length: 20.32mm; Height: 10.16mm; Pitch: 2.54mm; Contact Mating Length: 0.25inch; Depth: 9.27mm; Radiation Hardening: No; Supplier Part Number 1: SAM10526-ND
footprint Header Male 2x5 SMT - HTST
pins: 1, 2, 3, 4, 5, 6, 7, 8, 9, 10

## Header Male 5x2_PTH
designator P?, comment FNCTN
Header Male 5x2_PTH; Manufacturer: FCI; Manufacturer Part Number: 67997-110HLF; Connector Type: Header, Unshrouded; Number of Positions: 10; Number of Positions Loaded: All; Pitch: 0.100" (2.54mm); Supplier 1: Digi-Key; RoHS: RoHS Compliant; Category: Connectors, Interconnects; Stock 1: 542; Pricing 1: 1=2.65, 10=2.403, 25=2.2556, 50=2.1576, 100=2.0595, 250=1.86332, 500=1.71622, 1000=1.47105, 2500=1.37298 (USD); Packaging: Bulk; Contact Type: Male Pin; Number of Rows: 2; Row Spacing: 0.100" (2.54mm); Contact Mating Length: 0.230" (5.84mm); Mounting Type: Through Hole; Termination: Solder; Fastening Type: -; Features: -; Contact Finish: Gold or Gold, GXT™; Contact Finish Thickness: 30µin (0.76µm); Color: Black; ComponentLink1URL: http://portal.fciconnect.com/Comergent//fci/drawing/67996.pdf; ComponentLink1Description: http://portal.fciconnect.com/Comergent//fci/drawing/67996.pdf; Supplier Part Number 1: 609-3394-ND
footprint Header Male 2x5 PTH
pins: 1, 2, 3, 4, 5, 6, 7, 8, 9, 10

## Header Male 5x2_PTH_Shrouded
designator P?, comment FNCTN
Header Male 5x2_PTH_Shrouded; Manufacturer: 3M; Manufacturer Part Number: 30310-6002HB; Max Current Rating: 1A; Number of Positions: 10; Connector Type: Male Pin; Pitch: 2.54mm; Row Spacing: 0.1inch; Mating Post Length: 5.99mm; Approvals: UL; Supplier 1: Digi-Key; Stock 1: 9732; Pricing 1: 1=0.64, 10=0.6, 100=0.46, 500=0.4, 1000=0.33, 5000=0.29, 10000=0.27 (USD); Mount: Through Hole; Contact Material: Brass; Contact Plating: Nickel,Gold; Colour: Black; Housing Colour: Black; Housing Material: Polyester; Insulation Material: Polyester; Min Operating Temperature: -55°C; Max Operating Temperature: 105°C; Number of Rows: 2; Package Quantity: 1000; Packaging: Bulk; Current Rating: 1A; Termination: Solder; Number of Contacts: 10; Orientation: Straight; Gender: Male; Contact Gender: Male; Sensing Distance: 3m; Length: 20.3mm; Contact Mating Length: 0.236inch; Depth: 8.78mm; Termination Post Length: 2.79mm; Cable Length: 3m; Lead Length: 3m; REACH SVHC: No SVHC; Lead Free: Lead Free; Flammability Rating: UL94 V-0; ComponentLink1URL: https://datasheet.ciiva.com/718/ts0818-718184.pdf; ComponentLink1Description: https://datasheet.ciiva.com/718/ts0818-718184.pdf; ComponentLink2URL: https://datasheet.ciiva.com/14640/70114652-14640362.pdf; ComponentLink2Description: https://datasheet.ciiva.com/14640/70114652-14640362.pdf; ComponentLink3URL: https://datasheet.ciiva.com/8050/1624901-8050749.pdf; ComponentLink3Description: https://datasheet.ciiva.com/8050/1624901-8050749.pdf; ComponentLink4URL: https://datasheet.ciiva.com/5151/200920intercon20shortform20cat-221340-5151967.pdf; ComponentLink4Description: https://datasheet.ciiva.com/5151/200920intercon20shortform20cat-221340-5151967.pdf; Supplier Part Number 1: 30310-6002HB-ND
footprint Header Male 2x5 PTH - Shrouded
pins: 1, 2, 3, 4, 5, 6, 7, 8, 9, 10

## Header Male 5x2_PTH_Shrouded_3M11986-ND
designator P?, comment FNCTN
CONN HEADER VERT 10POS 2.54MM; Manufacturer: 3M; Manufacturer Part Number: N3793-6203RB; Max Current Rating: 2A; Current Rating: 1A; Voltage Rating: 1kV; Number of Positions: 10; Gender: Male; Connector Type: Male Pin; Row Spacing: 0.1inch; Supplier 1: Digi-Key; Stock 1: 985; Pricing 1: 1 = 1.97000, 10 = 1.78400, 100 = 1.52880, 500 = 1.27400, 1000 = 1.09200, 5000 = 0.96824, 10000 = 0.94640 (USD); RoHS: Yes; Mount: Through Hole; Contact Material: Copper Alloy; Contact Plating: Gold; Color: Black; Housing Color: Black; Housing Material: Polyester; Min Operating Temperature: -55°C; Max Operating Temperature: 105°C; Number of Rows: 2; Fastening Type: Latch; Packaging: Bulk; Package Quantity: 450; Termination: Solder; Number of Contacts: 10; Orientation: Straight; Length: 32.13mm; Pitch: 2.54mm; Contact Mating Length: 0.24inch; Depth: 8.6mm; REACH SVHC: No SVHC; Lead Free: Lead Free; ComponentLink1URL: https://datasheet.ciiva.com/6830/ts0772-6830279.pdf?src-supplier=Digi-Key; ComponentLink1Description: https://datasheet.ciiva.com/6830/ts0772-6830279.pdf?src-supplier=Digi-Key; ComponentLink2URL: https://datasheet.ciiva.com/16732/ts0772-16732233.pdf?src-supplier=Avnet+Europe; ComponentLink2Description: https://datasheet.ciiva.com/16732/ts0772-16732233.pdf?src-supplier=Avnet+Europe; Supplier Part Number 1: 3M11986-ND; ComponentLink3Description: Datasheet; ComponentLink3URL: http://multimedia.3m.com/mws/media/485761O/3mtm-four-wall-header-ts2245.pdf
footprint Header Male 2x5 PTH - Shrouded latched
pins: 1, 2, 3, 4, 5, 6, 7, 8, 9, 10